# Altium schematic symbol library MISC.SchLib: 6 symbols
Pins are listed as number, name and electrical type; pins without a type are passive.

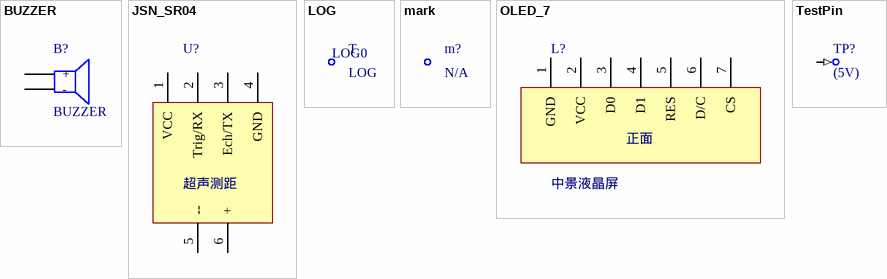
[diagram p0: symbols BUZZER to TestPin]

## BUZZER
designator B?
蜂鸣器; Published: 24-Mar-1999; LatestRevisionDate: 17-Jul-2002; LatestRevisionNote: Re-released for DXP Platform.; PackageReference: PIN2; Publisher: Altium Limited
footprint BUZZER (蜂鸣器)
pins: 1 +, 2 -

## JSN_SR04
designator U?, comment 超声测距
footprint JSN_SR04 (Connector; Header; 4 Position)
pins: 1 VCC, 2 Trig/RX, 3 Ech/TX, 4 GND, 5 --, 6 +

## LOG
designator T  (no BOM)
footprint LOG0
text: LOG0

## mark
designator m?, comment N/A  (no BOM)
footprint Mark

## OLED_7
designator L?, comment 中景液晶屏
1.3英寸OLED中景
footprint OLED_1.3INQ
pins: 1 GND, 2 VCC, 3 D0, 4 D1, 5 RES, 6 D/C, 7 CS
text: 正面

## TestPin
designator TP?, comment (5V)  (no BOM)
footprint TP
pins: 1 (in)